# EAGLE library part AD627 (library EE445L)
Micropower, Single- and Dual-Supply, Rail-to-Rail Instrumentation Amplifier Source: http://www.analog.com/static/imported-files/data_sheets/AD627.pdf
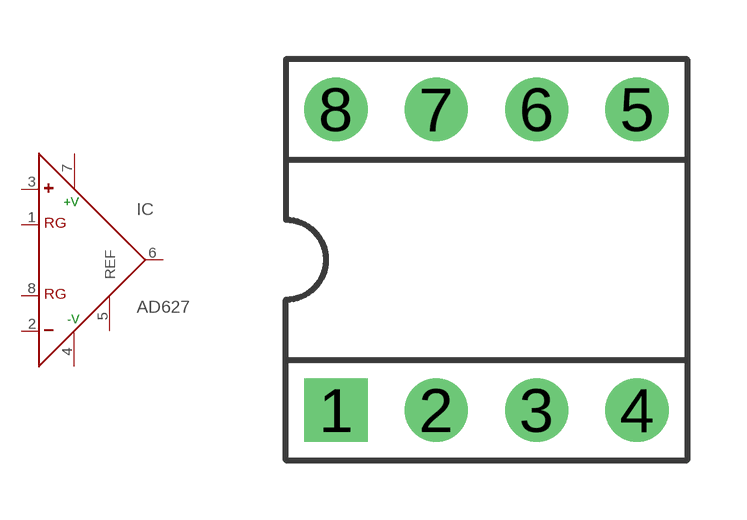
[diagram p1: symbol with the pads of DIL08; footprint DIL08]

Designator prefix IC

## AD627N (MF: ALTERA CORPORATION; MPN: AD627BNZ; OC_FARNELL: 1438354; OC_NEWARK: 59K4418)  [DIL08]
1  RG  pas
2  -  in
3  +  in
4  -V  pwr
5  REF  pas
6  OUT  out
7  +V  pwr
8  RG  pas

## Footprint DIL08 (pad centres in mm)
Dual In Line 0.8mm holes, 2.54mm=100mil spacing
drill 1 pad 1.6 square: 1 -3.81,-3.81
drill 1 pad 1.6: 2 -1.27,-3.81; 3 1.27,-3.81; 4 3.81,-3.81; 5 3.81,3.81; 6 1.27,3.81; 7 -1.27,3.81; 8 -3.81,3.81